# Altium integrated library 10k_Potentiometer.IntLib: 1 symbol
Pins are listed as number, name and electrical type; pins without a type are passive.

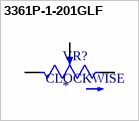
[diagram p0: symbol 3361P-1-201GLF]

## 3361P-1-201GLF
designator VR?
200 Ohms 0.5W, 1/2W Gull Wing Surface Mount Trimmer Potentiometer Cermet 1.0 Turn Top Adjustment; MF: Bourns; MP: 3361P-1-201GLF; SnapEDA_Link: https://www.snapeda.com/parts/3361P-1-201GLF/Bourns/view-part/?ref=snap; Package: 3361P Bourns; Value: *; Check_prices: https://www.snapeda.com/parts/3361P-1-201GLF/Bourns/view-part/?ref=eda
footprint TRIM_3361P-1-201GLF
pins: 1 CCW, 2 WIPER, 3 CW
text: CLOCKWISE